# Altium footprint library WeatherStation.PcbLib: 45 footprints (part 2 of 3)
Each footprint in its own frame and in the unit in brackets; x right, y up, seen from the top. Pads: shape width x height; smd on the part's side, far side on the other; paste and mask are expansions set on the pad; w line width, h text height; cw(c..) or ccw(c..) is an arc to the next point about the centre after c.
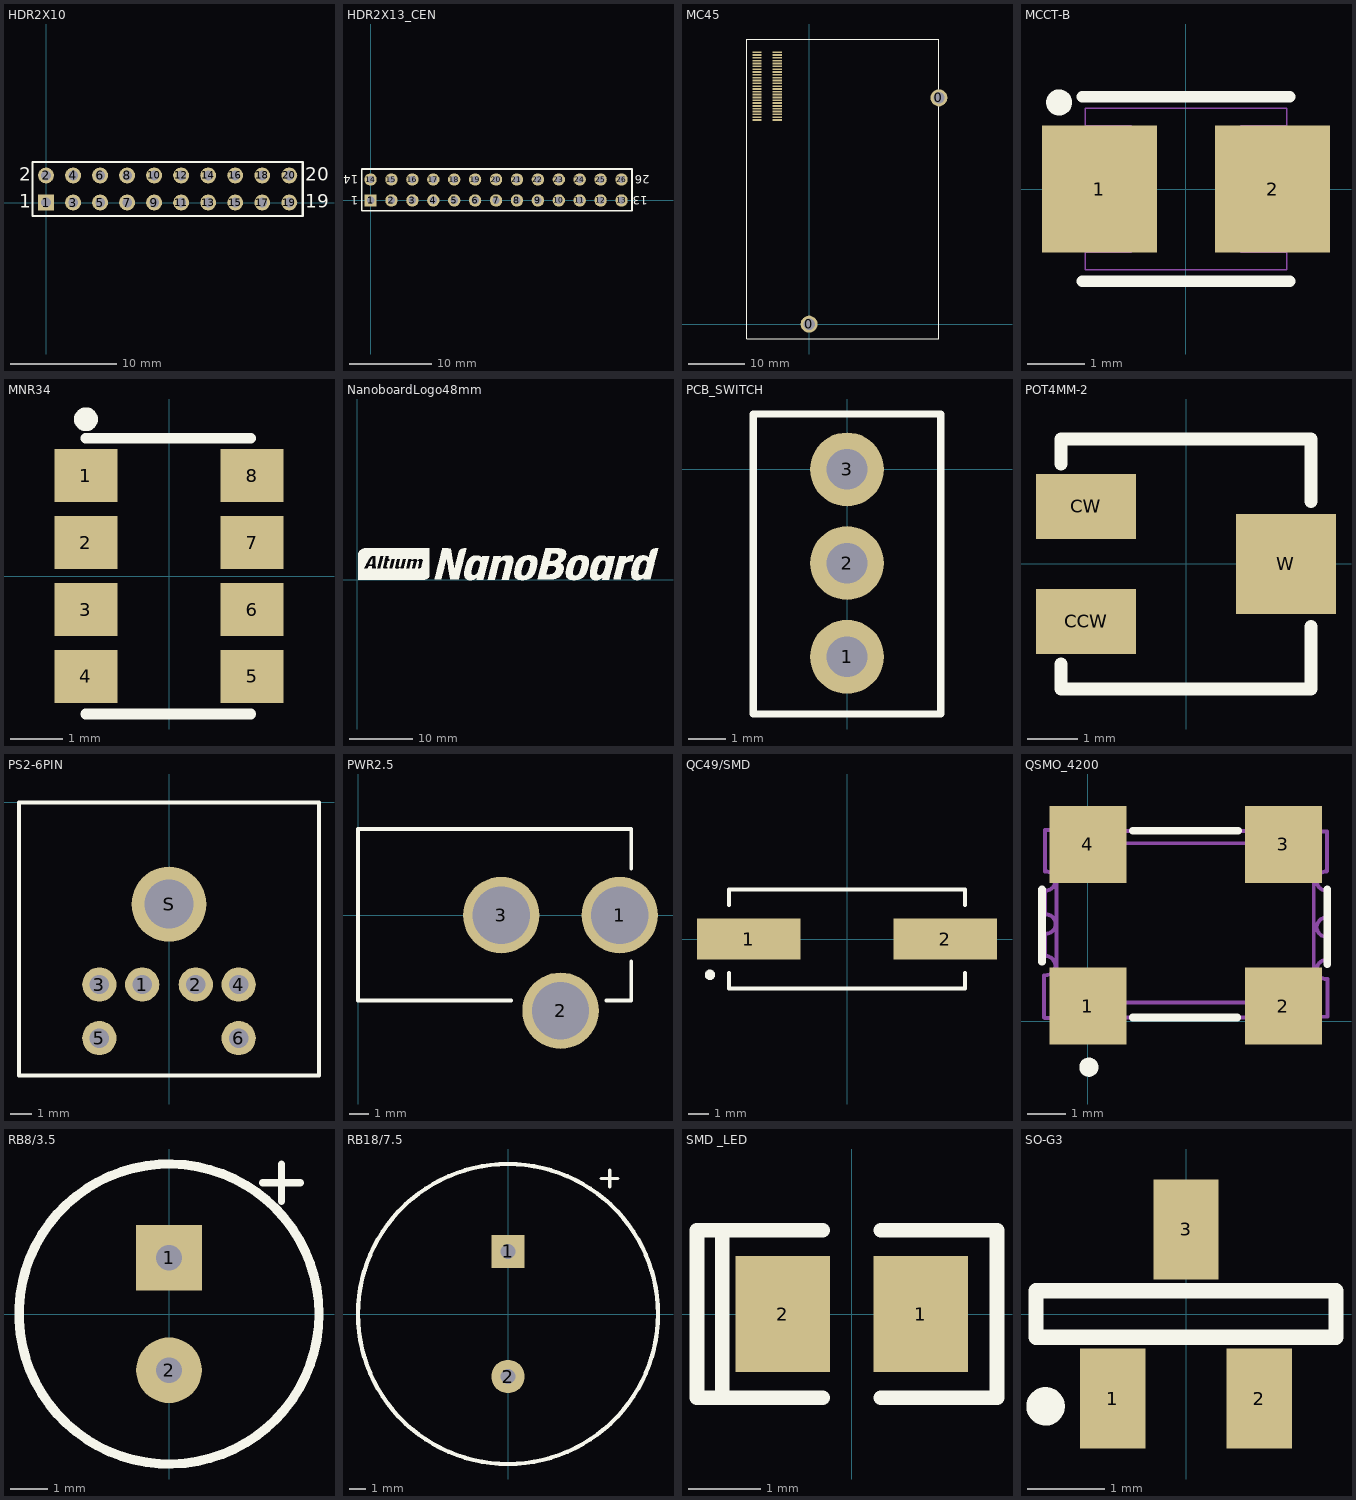
[diagram p1: the footprints below, top view; thin cyan lines are the x and y axes]

## HDR2X10 [mm]
pads (20):
  rect 1.5x1.5 hole 0.9: 1(0,0)
  round 1.5 hole 0.9: 2(0,2.54) 3(2.54,0) 4(2.54,2.54) 5(5.08,0) 6(5.08,2.54) 7(7.62,0) 8(7.62,2.54) 9(10.16,0) 10(10.16,2.54) 11(12.7,0) 12(12.7,2.54) 13(15.24,0) 14(15.24,2.54) 15(17.78,0) 16(17.78,2.54) 17(20.32,0) 18(20.32,2.54) 19(22.86,0) 20(22.86,2.54)
Top Overlay:
  lines w0.2: -1.27,-1.27 24.13,-1.27 24.13,3.81 -1.27,3.81 -1.27,-1.27
  text "2" at -2.54,2.032 h1.27
  text "1" at -2.54,-0.508 h1.27
  text "19" at 24.384,-0.508 h1.27
  text "20" at 24.384,2.032 h1.27

## HDR2X13_CEN [mm]
pads (26):
  rect 1.5x1.5 hole 0.9: 1(0,0)
  round 1.5 hole 0.9: 2(2.54,0) 3(5.08,0) 4(7.62,0) 5(10.16,0) 6(12.7,0) 7(15.24,0) 8(17.78,0) 9(20.32,0) 10(22.86,0) 11(25.4,0) 12(27.94,0) 13(30.48,0) 14(0,2.54) 15(2.54,2.54) 16(5.08,2.54) 17(7.62,2.54) 18(10.16,2.54) 19(12.7,2.54) 20(15.24,2.54) 21(17.78,2.54) 22(20.32,2.54) 23(22.86,2.54) 24(25.4,2.54) 25(27.94,2.54) 26(30.48,2.54)
Top Overlay:
  lines w0.2: -1.058,-1.27 -1.058,3.81 31.75,3.81 31.75,-1.27 -1.058,-1.27
  text "26" at 33.909,3.048 h1
  text "13" at 33.655,0.508 h1
  text "14" at -1.524,3.048 h1
  text "1" at -1.524,0.508 h1

## MC45 [mm]
pads (52):
  round 3 hole 2: 0(0,0) 0(22.95,40)
  rect 1.6x0.3 smd: 1(-5.625,48.075) 2(-5.625,47.575) 3(-5.625,47.075) 4(-5.625,46.575) 5(-5.625,46.075) 6(-5.625,45.575) 7(-5.625,45.075) 8(-5.625,44.575) 9(-5.625,44.075) 10(-5.625,43.575) 11(-5.625,43.075) 12(-5.625,42.575) 13(-5.625,42.075) 14(-5.625,41.575) 15(-5.625,41.075) 16(-5.625,40.575) 17(-5.625,40.075) 18(-5.625,39.575) 19(-5.625,39.075) 20(-5.625,38.575) 21(-5.625,38.075) 22(-5.625,37.575) 23(-5.625,37.075) 24(-5.625,36.575) 25(-5.625,36.075) 26(-9.225,36.075) 27(-9.225,36.575) 28(-9.225,37.075) 29(-9.225,37.575) 30(-9.225,38.075) 31(-9.225,38.575) 32(-9.225,39.075) 33(-9.225,39.575) 34(-9.225,40.075) 35(-9.225,40.575) 36(-9.225,41.075) 37(-9.225,41.575) 38(-9.225,42.075) 39(-9.225,42.575) 40(-9.225,43.075) 41(-9.225,43.575) 42(-9.225,44.075) 43(-9.225,44.575) 44(-9.225,45.075) 45(-9.225,45.575) 46(-9.225,46.075) 47(-9.225,46.575) 48(-9.225,47.075) 49(-9.225,47.575) 50(-9.225,48.075)
Top Overlay:
  lines w0.2: -11.05,-2.6 -11.05,50.4 22.95,50.4 22.95,-2.625 22.925,-2.6 -11.05,-2.6

## MCCT-B [mm]
pads (2):
  rect 2x2.2 smd: 1(-1.5,0) 2(1.5,0)
Top Overlay:
  circle w0.25: c-2.2,1.5 r0.1
  lines w0.2: -1.8,-1.6 1.8,-1.6 ; -1.8,1.6 1.8,1.6
Mechanical 15:
  lines w0.025: -1.75,-1.1 -0.95,-1.1 -0.95,1.1 -1.75,1.1 ; 1.75,-1.1 0.95,-1.1 0.95,1.1 1.75,1.1 ; -1.75,-1.4 1.75,-1.4 1.75,1.4 -1.75,1.4 -1.75,-1.4

## MNR34 [mm]
pads (8):
  rect 1.2x1 smd: 1(-1.575,1.905) 2(-1.575,0.635) 3(-1.575,-0.635) 4(-1.575,-1.905) 5(1.575,-1.905) 6(1.575,-0.635) 7(1.575,0.635) 8(1.575,1.905)
Top Overlay:
  circle w0.254: c-1.575,2.972 r0.1
  lines w0.2: -1.575,-2.616 1.549,-2.616 ; -1.575,2.616 1.549,2.616

## NanoboardLogo48mm [mm]
Top Overlay:
  drawing of 3446 lines, arcs and shapes, not listed

## PCB_SWITCH [mm]
pads (3):
  round 2 hole 1.1: 1(0,-5.08) 2(0,-2.54) 3(0,0)
Top Overlay:
  lines w0.2: -2.54,-6.63 2.54,-6.63 2.54,1.5 -2.54,1.5 -2.54,-6.63

## POT4MM-2 [mm]
pads (3):
  rect 2x1.3 smd: CCW(-2,-1.15) CW(-2,1.15)
  rect 2x2 smd: W(2,0)
Top Overlay:
  lines w0.254: -2.5,-2 -2.5,-2.5 2.5,-2.5 2.5,-1.25 ; -2.5,2 -2.5,2.5 2.5,2.5 2.5,1.25

## PS2-6PIN [mm]
pads (7):
  round 1.6 hole 0.9: 1(-1.25,-8.5) 2(1.25,-8.5) 3(-3.25,-8.5) 4(3.25,-8.5) 5(-3.25,-11) 6(3.25,-11)
  round 3.5 hole 2.29: S(0,-4.75)
Top Overlay:
  lines w0.2: -7,-12.75 7,-12.75 7,0 -7,0 -7,-12.75

## PWR2.5 [mm]
pads (3):
  round 4 hole 3: 1(13.7,0) 2(10.6,-5) 3(7.5,0)
Top Overlay:
  lines w0.2: 8,-4.475 0,-4.475 0,0.025 0,4.5 14.3,4.5 14.3,2.425 ; 13,-4.475 14.3,-4.475 14.3,-2.425

## QC49/SMD [mm]
pads (2):
  rect 5x2 smd: 1(-4.75,0) 2(4.75,0)
Top Overlay:
  circle w0.25: c-6.625,-1.73 r0.125
  lines w0.2: -5.7,-1.65 -5.7,-2.4 5.7,-2.4 5.7,-1.65 ; -5.7,1.65 -5.7,2.4 5.7,2.4 5.7,1.65

## QSMO_4200 [mm]
pads (4):
  rect 2x2 smd: 1(0,0.4) 2(5.08,0.4) 3(5.08,4.6) 4(0,4.6)
Top Overlay:
  circle w0.25: c0.025,-1.19 r0.125
  lines w0.2: -1.194,1.549 -1.194,3.429 ; 1.162,4.953 3.912,4.953 ; 1.168,0.102 3.886,0.102 ; 6.223,1.489 6.223,3.429
Mechanical 15:
  lines w0.1: -1.143,0.102 -1.143,1.194 ; -1.12,0.09 -0.27,0.09 -0.29,0.11 ; -1.12,3.9 -1.12,4.98 -0.26,4.98 ; -1.118,1.702 -1.118,2.286 ; -1.118,2.794 -1.118,3.378 ; -1.1,1.2 ccw(c-1.1,1.45) -1.1,1.7 ; -1.1,3.4 ccw(c-1.1,3.65) -1.1,3.9 ; -1.09,2.28 ccw(c-1.09,2.53) -1.09,2.78 ; -0.83,0.49 5.87,0.49 5.87,4.63 -0.82,4.63 -0.82,3.91 -0.82,0.51 ; -0.3,0.15 cw(c-0.05,0.15) 0.2,0.15 ; -0.23,4.91 ccw(c0.02,4.91) 0.27,4.91 ; 0.19,0.1 4.78,0.1 ; 0.25,4.95 4.87,4.95 ; 4.8,0.16 cw(c5.05,0.16) 5.3,0.16 ; 4.88,4.91 ccw(c5.13,4.91) 5.38,4.91 ; 5.29,0.12 6.23,0.12 6.23,1.1 ; 5.35,4.94 6.22,4.94 6.22,3.91 ; 6.198,1.62 6.198,2.184 ; 6.2,1.1 cw(c6.2,1.35) 6.2,1.6 ; 6.2,2.2 cw(c6.2,2.45) 6.2,2.7 ; 6.2,3.4 cw(c6.2,3.65) 6.2,3.9 ; 6.223,2.704 6.223,3.378

## RB8/3.5 [mil]
pads (2):
  rect 70x70 hole 27.56: 1(0,60)
  round 70 hole 27.56: 2(0,-60)
Top Overlay:
  circle w10: c0,0 r160
  lines w7.87: 100,140 140,140 ; 120,120 120,160

## RB18/7.5 [mm]
pads (2):
  rect 2x2 hole 0.9: 1(0,3.75)
  round 2 hole 0.9: 2(0,-3.75)
Top Overlay:
  circle w0.254: c0,0 r9
  lines w0.2: 5.588,8.128 6.604,8.128 ; 6.096,7.62 6.096,8.636

## SMD _LED [mm]
pads (2):
  rect 1.3x1.6 smd: 1(0.95,0) 2(-0.95,0)
Top Overlay:
  lines w0.2: -1.78,-1.15 -1.78,1.15 ; -0.4,-1.15 -2.13,-1.15 -2.13,1.15 -0.4,1.15 ; 0.4,-1.15 2,-1.15 2,1.15 0.4,1.15

## SO-G3 [mm]
pads (3):
  rect 0.85x1.3 smd: 1(-0.95,-1.1) 2(0.95,-1.1) 3(0,1.1)
Top Overlay:
  circle w0.25: c-1.825,-1.2 r0.125
  lines w0.2: -1.95,-0.3 -1.95,0.3 1.95,0.3 1.95,-0.3 -1.95,-0.3